# EAGLE library part TEXAS_INSTRUMENTS-ETHERNET_TRANSCEIVER-DP83822HRHBR (library Module_ICs)
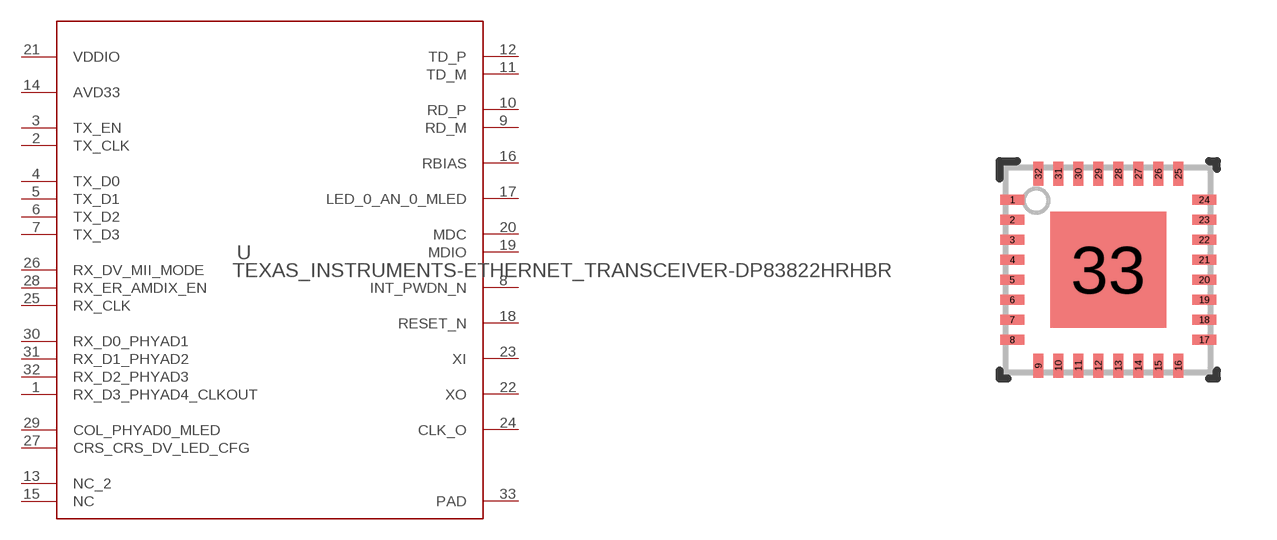
[diagram p29: symbol with the pads of TEXAS_INSTRUMENTS-ETHERNET_TRANSCEIVER-DP83822HRHBR; footprint TEXAS_INSTRUMENTS-ETHERNET_TRANSCEIVER-DP83822HRHBR]

Designator prefix U

## TEXAS_INSTRUMENTS-ETHERNET_TRANSCEIVER-DP83822HRHBR (MANUFACTURER: Texas Instruments; PARTNUMBER: DP83822HRHBR; REFDES: RefDes; TYPE: TYPE; VALUE: Value)  [TEXAS_INSTRUMENTS-ETHERNET_TRANSCEIVER-DP83822HRHBR]
1  RX_D3_PHYAD4_CLKOUT
2  TX_CLK  out
3  TX_EN  in
4  TX_D0  in
5  TX_D1  in
6  TX_D2  in
7  TX_D3  in
8  INT_PWDN_N
9  RD_M
10  RD_P
11  TD_M
12  TD_P
13  NC_2  pas
14  AVD33  pwr
15  NC  pas
16  RBIAS  pas
17  LED_0_AN_0_MLED
18  RESET_N  in
19  MDIO
20  MDC  in
21  VDDIO  pwr
22  XO  pas
23  XI  pas
24  CLK_O  out
25  RX_CLK  out
26  RX_DV_MII_MODE
27  CRS_CRS_DV_LED_CFG
28  RX_ER_AMDIX_EN
29  COL_PHYAD0_MLED
30  RX_D0_PHYAD1
31  RX_D1_PHYAD2
32  RX_D2_PHYAD3
33  PAD  pwr

## Footprint TEXAS_INSTRUMENTS-ETHERNET_TRANSCEIVER-DP83822HRHBR (pad centres in mm)
smd 0.6 x 0.25: 1 -2.4,1.75; 2 -2.4,1.25; 3 -2.4,0.75; 4 -2.4,0.25; 5 -2.4,-0.25; 6 -2.4,-0.75; 7 -2.4,-1.25; 8 -2.4,-1.75; 17 2.4,-1.75; 18 2.4,-1.25; 19 2.4,-0.75; 20 2.4,-0.25; 21 2.4,0.25; 22 2.4,0.75; 23 2.4,1.25; 24 2.4,1.75
smd 0.25 x 0.6: 9 -1.75,-2.4; 10 -1.25,-2.4; 11 -0.75,-2.4; 12 -0.25,-2.4; 13 0.25,-2.4; 14 0.75,-2.4; 15 1.25,-2.4; 16 1.75,-2.4; 25 1.75,2.4; 26 1.25,2.4; 27 0.75,2.4; 28 0.25,2.4; 29 -0.25,2.4; 30 -0.75,2.4; 31 -1.25,2.4; 32 -1.75,2.4
smd 2.9 x 2.9: 33 0,0